# Altium footprint library CAPPRD350W50D800H11500V - 0 - 0.PcbLib: 1 footprints
Each footprint in its own frame and in the unit in brackets; x right, y up, seen from the top. Pads: shape width x height; smd on the part's side, far side on the other; paste and mask are expansions set on the pad; w line width, h text height; cw(c..) or ccw(c..) is an arc to the next point about the centre after c.
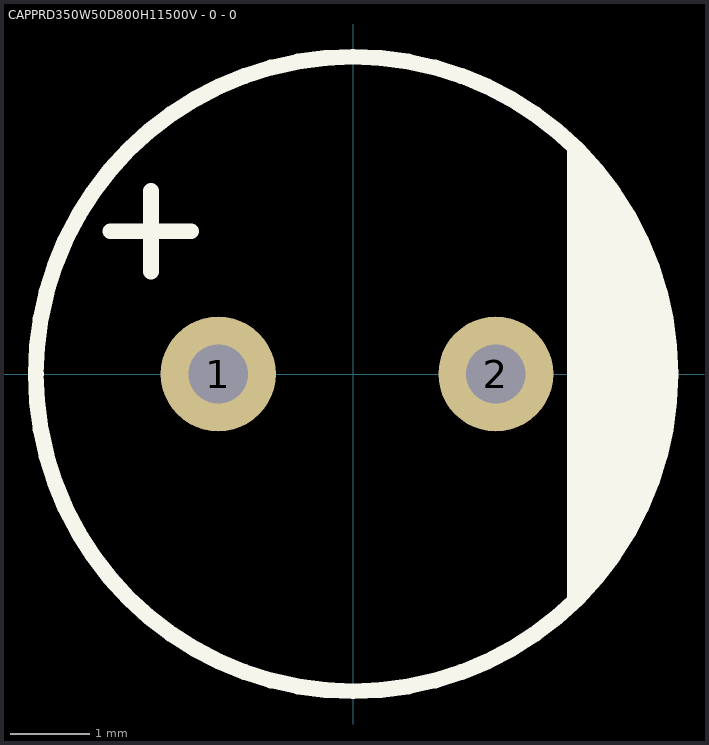
[diagram p0: the footprint, top view; thin cyan lines are the x and y axes]

## CAPPRD350W50D800H11500V - 0 - 0 [mm] "CAP ALUM RADIAL DIA 8MM HEIGHT 11.5MM PITCH 3.5MM"
height 11.5
pads (2):
  round 1.45 hole 0.75: 1(-1.7,0) 2(1.8,0)
Top Overlay:
  circle w0.2: c0,0 r4
  region: 2.7,3 2.7,-3 3.497,-1.885 3.739,-1.219 3.8,-0.933 4.023,0.106 3.8,1.46
  lines w0.2: -3.058,1.8 -2.042,1.8 ; -2.55,1.292 -2.55,2.308
3D body: height 10, standoff 0, extent 6.3,2.4 6.3,2.4
3D body: height 11.5, standoff 0, extent -4,-3.997 4,3.997